# Altium footprint library con-commcon.PCBLIB: 18 footprints (part 2 of 2)
Each footprint in its own frame and in the unit in brackets; x right, y up, seen from the top. Pads: shape width x height; smd on the part's side, far side on the other; paste and mask are expansions set on the pad; w line width, h text height; cw(c..) or ccw(c..) is an arc to the next point about the centre after c.
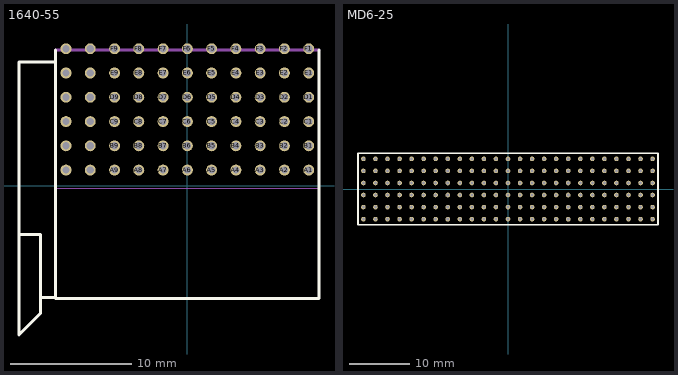
[diagram p1: the footprints below, top view; thin cyan lines are the x and y axes]

## 1640-55 [mm]
pads (66):
  round 0.9 hole 0.6: A1(10,1.27) A2(8,1.27) A3(6,1.27) A4(4,1.27) A5(2,1.27) A6(0,1.27) A7(-2,1.27) A8(-4,1.27) A9(-6,1.27) A10(-8,1.27) A11(-10,1.27) B1(10,3.27) B2(8,3.27) B3(6,3.27) B4(4,3.27) B5(2,3.27) B6(0,3.27) B7(-2,3.27) B8(-4,3.27) B9(-6,3.27) B10(-8,3.27) B11(-10,3.27) C1(10,5.27) C2(8,5.27) C3(6,5.27) C4(4,5.27) C5(2,5.27) C6(0,5.27) C7(-2,5.27) C8(-4,5.27) C9(-6,5.27) C10(-8,5.27) C11(-10,5.27) D1(10,7.27) D2(8,7.27) D3(6,7.27) D4(4,7.27) D5(2,7.27) D6(0,7.27) D7(-2,7.27) D8(-4,7.27) D9(-6,7.27) D10(-8,7.27) D11(-10,7.27) E1(10,9.27) E2(8,9.27) E3(6,9.27) E4(4,9.27) E5(2,9.27) E6(0,9.27) E7(-2,9.27) E8(-4,9.27) E9(-6,9.27) E10(-8,9.27) E11(-10,9.27) F1(10,11.27) F2(8,11.27) F3(6,11.27) F4(4,11.27) F5(2,11.27) F6(0,11.27) F7(-2,11.27) F8(-4,11.27) F9(-6,11.27) F10(-8,11.27) F11(-10,11.27)
Top Overlay:
  lines w0.254: -13.872,-12.296 -13.872,10.176 ; -13.8,-12.23 -12.1,-10.53 -12.1,-4.03 -13.8,-4.03 ; -13.8,10.17 -11,10.17 ; -12,-9.23 -10.9,-9.23 ; -10.872,11.176 -10.872,-9.296 10.847,-9.296 10.847,11.176
Mechanical 1:
  lines w0.051: -10.789,-0.23 10.789,-0.23
Mechanical 16:
  lines w0.254: -10.872,11.176 10.847,11.176

## MD6-25 [mil]
pads (150):
  round 30 hole 20: A1(-944.88,-196.85) A2(-866.14,-196.85) A3(-787.4,-196.85) A4(-708.66,-196.85) A5(-629.92,-196.85) A6(-551.18,-196.85) A7(-472.44,-196.85) A8(-393.7,-196.85) A9(-314.96,-196.85) A10(-236.22,-196.85) A11(-157.48,-196.85) A12(-78.74,-196.85) A13(0,-196.85) A14(78.74,-196.85) A15(157.48,-196.85) A16(236.22,-196.85) A17(314.96,-196.85) A18(393.7,-196.85) A19(472.44,-196.85) A20(551.18,-196.85) A21(629.92,-196.85) A22(708.66,-196.85) A23(787.4,-196.85) A24(866.14,-196.85) A25(944.88,-196.85) B1(-944.88,-118.11) B2(-866.14,-118.11) B3(-787.4,-118.11) B4(-708.66,-118.11) B5(-629.92,-118.11) B6(-551.18,-118.11) B7(-472.44,-118.11) B8(-393.7,-118.11) B9(-314.96,-118.11) B10(-236.22,-118.11) B11(-157.48,-118.11) B12(-78.74,-118.11) B13(0,-118.11) B14(78.74,-118.11) B15(157.48,-118.11) B16(236.22,-118.11) B17(314.96,-118.11) B18(393.7,-118.11) B19(472.44,-118.11) B20(551.18,-118.11) B21(629.92,-118.11) B22(708.66,-118.11) B23(787.4,-118.11) B24(866.14,-118.11) B25(944.88,-118.11) C1(-944.88,-39.37) C2(-866.14,-39.37) C3(-787.4,-39.37) C4(-708.66,-39.37) C5(-629.92,-39.37) C6(-551.18,-39.37) C7(-472.44,-39.37) C8(-393.7,-39.37) C9(-314.96,-39.37) C10(-236.22,-39.37) C11(-157.48,-39.37) C12(-78.74,-39.37) C13(0,-39.37) C14(78.74,-39.37) C15(157.48,-39.37) C16(236.22,-39.37) C17(314.96,-39.37) C18(393.7,-39.37) C19(472.44,-39.37) C20(551.18,-39.37) C21(629.92,-39.37) C22(708.66,-39.37) C23(787.4,-39.37) C24(866.14,-39.37) C25(944.88,-39.37) D1(-944.88,39.37) D2(-866.14,39.37) D3(-787.4,39.37) D4(-708.66,39.37) D5(-629.92,39.37) D6(-551.18,39.37) D7(-472.44,39.37) D8(-393.7,39.37) D9(-314.96,39.37) D10(-236.22,39.37) D11(-157.48,39.37) D12(-78.74,39.37) D13(0,39.37) D14(78.74,39.37) D15(157.48,39.37) D16(236.22,39.37) D17(314.96,39.37) D18(393.7,39.37) D19(472.44,39.37) D20(551.18,39.37) D21(629.92,39.37) D22(708.66,39.37) D23(787.4,39.37) D24(866.14,39.37) D25(944.88,39.37) E1(-944.88,118.11) E2(-866.14,118.11) E3(-787.4,118.11) E4(-708.66,118.11) E5(-629.92,118.11) E6(-551.18,118.11) E7(-472.44,118.11) E8(-393.7,118.11) E9(-314.96,118.11) E10(-236.22,118.11) E11(-157.48,118.11) E12(-78.74,118.11) E13(0,118.11) E14(78.74,118.11) E15(157.48,118.11) E16(236.22,118.11) E17(314.96,118.11) E18(393.7,118.11) E19(472.44,118.11) E20(551.18,118.11) E21(629.92,118.11) E22(708.66,118.11) E23(787.4,118.11) E24(866.14,118.11) E25(944.88,118.11) F1(-944.88,196.85) F2(-866.14,196.85) F3(-787.4,196.85) F4(-708.66,196.85) F5(-629.92,196.85) F6(-551.18,196.85) F7(-472.44,196.85) F8(-393.7,196.85) F9(-314.96,196.85) F10(-236.22,196.85) F11(-157.48,196.85) F12(-78.74,196.85) F13(0,196.85) F14(78.74,196.85) F15(157.48,196.85) F16(236.22,196.85) F17(314.96,196.85) F18(393.7,196.85) F19(472.44,196.85) F20(551.18,196.85) F21(629.92,196.85) F22(708.66,196.85) F23(787.4,196.85) F24(866.14,196.85) F25(944.88,196.85)
Top Overlay:
  lines w10: -980.32,-232.28 -980.32,232.28 980.32,232.28 980.32,-232.28 -980.32,-232.28